# EAGLE library part TPS200(2/3)C (library 1dah)
TPS2002C/TPS2003C 2-ch 2A current limited switch. 2002C - logic low enable 2003C - logic high enable
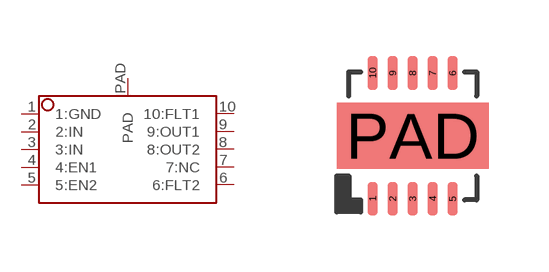
[diagram p66: symbol with the pads of SON-10; footprint SON-10]

Designator prefix -

## TPS200(2/3)C  [SON-10]
1  1:GND
2  2:IN
3  3:IN
4  4:EN1
5  5:EN2
6  6:FLT2
7  7:NC
8  8:OUT2
9  9:OUT1
10  10:FLT1
PAD  PAD

## Footprint SON-10 (pad centres in mm)
smd 0.25 x 0.84: 1 -1,-1.57; 2 -0.5,-1.57; 3 0,-1.57; 4 0.5,-1.57; 5 1,-1.57; 6 1,1.57; 7 0.5,1.57; 8 0,1.57; 9 -0.5,1.57; 10 -1,1.57
smd 3.8 x 1.65: PAD 0,0